# EAGLE library part SKY67151-396LF (library SKY67151-396LF)
RF Amplifier 700-3800MHz NF .6dB OP1dB 20dBm @2.5GHz Source: Datasheet <https://datasheet.datasheetarchive.com/originals/distributors/DKDS-19/379330.pdf>
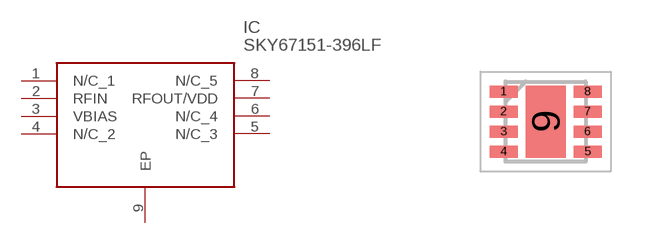
[diagram p0: symbol with the pads of SON50P200X200X80-9N; footprint SON50P200X200X80-9N]

Designator prefix IC

## SKY67151-396LF (Description: RF Amplifier 700-3800MHz NF .6dB OP1dB 20dBm @2.5GHz; Height: 0.8mm; Manufacturer_Name: Skyworks; Manufacturer_Part_Number: SKY67151-396LF; Mouser_Part_Number: 873-SKY67151-396LF; Mouser_Price-Stock: https://www.mouser.co.uk/ProductDetail/Skyworks-Solutions-Inc/SKY67151-396LF?qs=Xju9evkTxaejMohAlwo9TA%3D%3D)  [SON50P200X200X80-9N]
1  N/C_1
2  RFIN
3  VBIAS
4  N/C_2
5  N/C_3
6  N/C_4
7  RFOUT/VDD
8  N/C_5
9  EP

## Footprint SON50P200X200X80-9N (pad centres in mm)
SKY67151-396L
smd 0.7 x 0.3: 1 -1.05,0.75; 2 -1.05,0.25; 3 -1.05,-0.25; 4 -1.05,-0.75; 5 1.05,-0.75; 6 1.05,-0.25; 7 1.05,0.25; 8 1.05,0.75
smd 1 x 1.8: 9 0,0